# EAGLE library part 691413720006B (library WR-TBL Spring Clamp)
WR-TBL Serie 413B - 5.00 mm Screwless 45° Entry - 3.00 mm 2 Wires KIND PROPERTIES Pitch 5 mm MATERIAL PROPERTIES Insulator Material PA66 Insulator Flammability Rating UL94 V-0 Contact Material Brass Contact Plating Tin Wire Guard Material Stainless Steel GENERAL INFORMATION Operating Temperature -40 up to +115 °C Compliance RoHS ELECTRICAL PROPERTIES IR cULus 15 A Working Voltage [cULus] 300 V (AC) Withstanding Voltage [cULus] 1600 V (AC) Contact Resistance [cULus] 20 mΩ Mechanical Properties Wire Strip Length 5 up to 6 (mm) Wire Properties Solid Wire Section (AWG) 12 to 28 (AWG) Solid Wire Section (Metric) 3.31 to 0.0810 (mm²) Stranded Wire Section (AWG) 12 to 28 (AWG) Stranded Wire Section (Metric) 3.31 to 0.0810 (mm²) CERTIFICATION cULus Approval E315414 Packaging Properties Packaging Box Details see: www.we-online.com/en/components/products/TBL_5_00_413B_SCREWLESS_45-DEGREE_ENTRY_3_0MM2_WIRES_6914137200XXB/ Updated by Ella Wu 2019-12-31 2019(C) Würth Elektronik
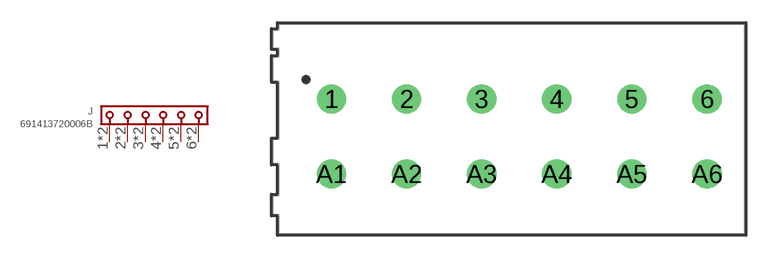
[diagram p123: symbol with the pads of 691413720006B; footprint 691413720006B]

Designator prefix J

## 691413720006B (APPLICATION: Screwless; DATASHEET: https://www.we-online.com/redexpert/spec/691413720006B?ae; IR-UL: 15A; MODULARITY: No; MOUNT: THT; PART-NUMBER: 691413720006B; PINS: 6; PITCH: 5mm; TYPE: 45°; VALUE: 691413720006B; WIRE: 12 to 28 (AWG) 3.31 to 0.0810 (mm²); WORKING-VOLTAGE-UL: 300V (AC))  [691413720006B]
1  1  pas
2  2  pas
3  3  pas
4  4  pas
5  5  pas
6  6  pas
A1  1  pas
A2  2  pas
A3  3  pas
A4  4  pas
A5  5  pas
A6  6  pas

## Footprint 691413720006B (pad centres in mm)
WR-TBL Serie 413B - 5.00 mm Screwless 45° Entry - 3.00 mm 2 Wires Max Height = 13mm , Pitch 5mm , 6pins
drill 1.3: 1 -12.5,2.5; 2 -7.5,2.5; 3 -2.5,2.5; 4 2.5,2.5; 5 7.5,2.5; 6 12.5,2.5; A1 -12.5,-2.5; A2 -7.5,-2.5; A3 -2.5,-2.5; A4 2.5,-2.5; A5 7.5,-2.5; A6 12.5,-2.5